# EAGLE library part ULN2003 (library Flipdot)
Darlington Transistor [GND]
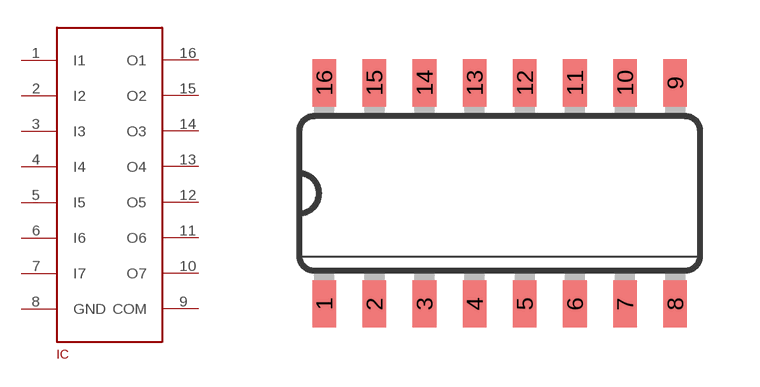
[diagram p1: symbol with the pads of SO16; footprint SO16]

Designator prefix IC

## ULN2003  [SO16]
1  I1
2  I2
3  I3
4  I4
5  I5
6  I6
7  I7
8  GND
9  COM
10  O7
11  O6
12  O5
13  O4
14  O3
15  O2
16  O1

## Footprint SO16 (pad centres in mm)
Small Outline package 150 mil
smd 0.6 x 1.2: 1 -4.445,-2.8; 2 -3.175,-2.8; 3 -1.905,-2.8; 4 -0.635,-2.8; 5 0.635,-2.8; 6 1.905,-2.8; 7 3.175,-2.8; 8 4.445,-2.8; 9 4.445,2.8; 10 3.175,2.8; 11 1.905,2.8; 12 0.635,2.8; 13 -0.635,2.8; 14 -1.905,2.8; 15 -3.175,2.8; 16 -4.445,2.8